# Altium schematic symbol library 436331045822.SchLib: 1 symbol
Pins are listed as number, name and electrical type; pins without a type are passive.

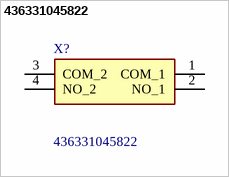
[diagram p0: symbol 436331045822]

## 436331045822
designator X?
Black Tactile Switch, NO 50 mA@ 12 V dc 2.6mm Surface Mount; Manufacturer_Name: Wurth Elektronik; Geometry.Height: 1.65mm; Mouser Part Number: 710-436331045822; Mouser Price/Stock: https://www.mouser.co.uk/ProductDetail/Wurth-Elektronik/436331045822?qs=wr8lucFkNMXz9UbduBxtIQ%3D%3D; Manufacturer_Part_Number: 436331045822; Datasheet Link: http://katalog.we-online.de/em/datasheet/4363x10458xx.pdf
footprint 436331045822
pins: 1 COM_1, 2 NO_1, 3 COM_2, 4 NO_2